# EAGLE library part SIM908-C_SIM548C (library myTracelib)
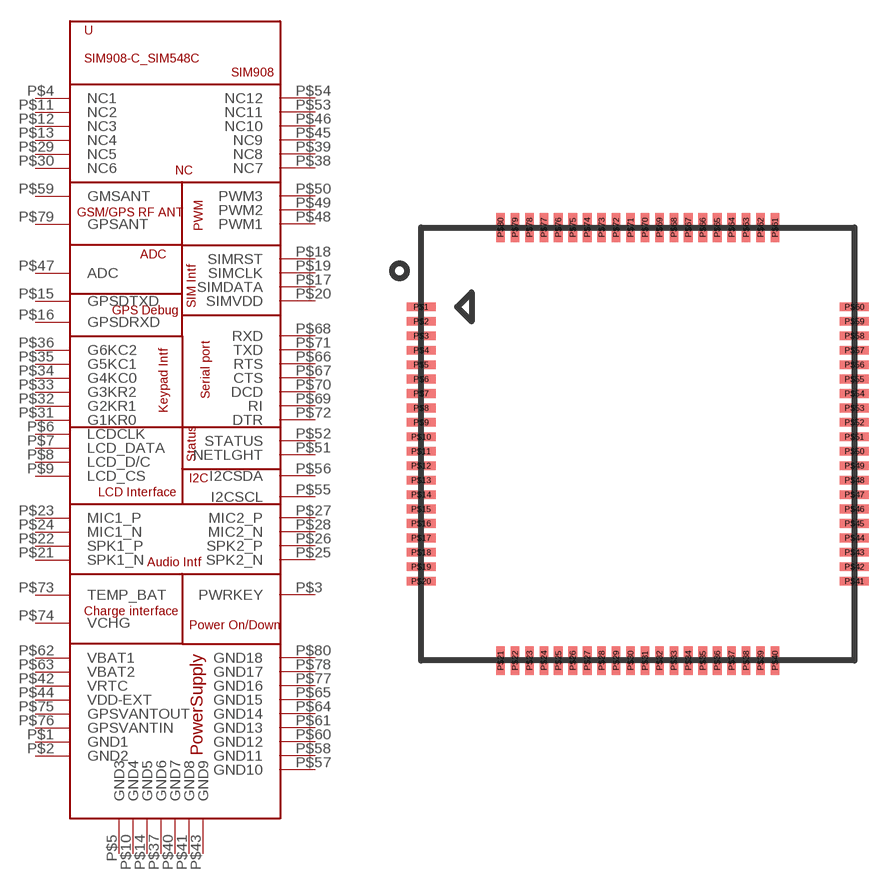
[diagram p0: symbol with the pads of SIM908-C_SIM548C; footprint SIM908-C_SIM548C]

Designator prefix -

## SIM908-C_SIM548C  [SIM908-C_SIM548C]
P$1  GND1
P$2  GND2
P$3  PWRKEY
P$4  NC1
P$5  GND3
P$6  LCDCLK
P$7  LCD_DATA
P$8  LCD_D/C
P$9  LCD_CS
P$10  GND4
P$11  NC2
P$12  NC3
P$13  NC4
P$14  GND5
P$15  GPSDTXD
P$16  GPSDRXD
P$17  SIMDATA
P$18  SIMRST
P$19  SIMCLK
P$20  SIMVDD
P$21  SPK1_N
P$22  SPK1_P
P$23  MIC1_P
P$24  MIC1_N
P$25  SPK2_N
P$26  SPK2_P
P$27  MIC2_P
P$28  MIC2_N
P$29  NC5
P$30  NC6
P$31  G1KR0
P$32  G2KR1
P$33  G3KR2
P$34  G4KC0
P$35  G5KC1
P$36  G6KC2
P$37  GND6
P$38  NC7
P$39  NC8
P$40  GND7
P$41  GND8
P$42  VRTC
P$43  GND9
P$44  VDD-EXT
P$45  NC9
P$46  NC10
P$47  ADC
P$48  PWM1
P$49  PWM2
P$50  PWM3
P$51  NETLGHT
P$52  STATUS
P$53  NC11
P$54  NC12
P$55  I2CSCL
P$56  I2CSDA
P$57  GND10
P$58  GND11
P$59  GMSANT
P$60  GND12
P$61  GND13
P$62  VBAT1
P$63  VBAT2
P$64  GND14
P$65  GND15
P$66  RTS
P$67  CTS
P$68  RXD
P$69  RI
P$70  DCD
P$71  TXD
P$72  DTR
P$73  TEMP_BAT
P$74  VCHG
P$75  GPSVANTOUT
P$76  GPSVANTIN
P$77  GND16
P$78  GND17
P$79  GPSANT
P$80  GND18

## Footprint SIM908-C_SIM548C (pad centres in mm)
smd 2 x 0.6: P$1 -15,9; P$2 -15,8; P$3 -15,7; P$4 -15,6; P$5 -15,5; P$6 -15,4; P$7 -15,3; P$8 -15,2; P$9 -15,1; P$10 -15,0; P$11 -15,-1; P$12 -15,-2; P$13 -15,-3; P$14 -15,-4; P$15 -15,-5; P$16 -15,-6; P$17 -15,-7; P$18 -15,-8; P$19 -15,-9; P$20 -15,-10; P$41 15,-10; P$42 15,-9; P$43 15,-8; P$44 15,-7; P$45 15,-6; P$46 15,-5; P$47 15,-4; P$48 15,-3; P$49 15,-2; P$50 15,-1; P$51 15,0; P$52 15,1; P$53 15,2; P$54 15,3; P$55 15,4; P$56 15,5; P$57 15,6; P$58 15,7; P$59 15,8; P$60 15,9
smd 0.6 x 2: P$21 -9.5,-15.5; P$22 -8.5,-15.5; P$23 -7.5,-15.5; P$24 -6.5,-15.5; P$25 -5.5,-15.5; P$26 -4.5,-15.5; P$27 -3.5,-15.5; P$28 -2.5,-15.5; P$29 -1.5,-15.5; P$30 -0.5,-15.5; P$31 0.5,-15.5; P$32 1.5,-15.5; P$33 2.5,-15.5; P$34 3.5,-15.5; P$35 4.5,-15.5; P$36 5.5,-15.5; P$37 6.5,-15.5; P$38 7.5,-15.5; P$39 8.5,-15.5; P$40 9.5,-15.5; P$61 9.5,14.5; P$62 8.5,14.5; P$63 7.5,14.5; P$64 6.5,14.5; P$65 5.5,14.5; P$66 4.5,14.5; P$67 3.5,14.5; P$68 2.5,14.5; P$69 1.5,14.5; P$70 0.5,14.5; P$71 -0.5,14.5; P$72 -1.5,14.5; P$73 -2.5,14.5; P$74 -3.5,14.5; P$75 -4.5,14.5; P$76 -5.5,14.5; P$77 -6.5,14.5; P$78 -7.5,14.5; P$79 -8.5,14.5; P$80 -9.5,14.5